# EAGLE library part 691701340006B (library Wurth_Connectors_WR-TBL Pluggable Connector)
WR-TBL Serie 7013 - 3.81 mm Horizontal PCB Header THR Type KIND PROPERTIES Pitch 3.81 mm MATERIAL PROPERTIES Insulator Material LCP Insulator Flammability Rating UL94 V-0 Contact Material Brass Contact Plating Tin GENERAL INFORMATION Operating Temperature -40 up to +105 °C Compliance RoHS ELECTRICAL PROPERTIES IR cULus 10 A Working Voltage [cULus] 300 V (AC) Withstanding Voltage [cULus] 2500 V (AC) Contact Resistance [cULus] 20 mΩ CERTIFICATION cULus Approval E315414 <https://www.we-online.com/catalog/media/o33330v209%20Family_WR-TBL_6917013400xxB.jpg> Details see: https://www.we-online.com/catalog/en/TBL_3_81_THR_7013_HORIZONTAL_PCB_HEADER_6917013400XXB/ Updated by Ella Wu 2022-07-25 2022(C) Wurth Elektronik
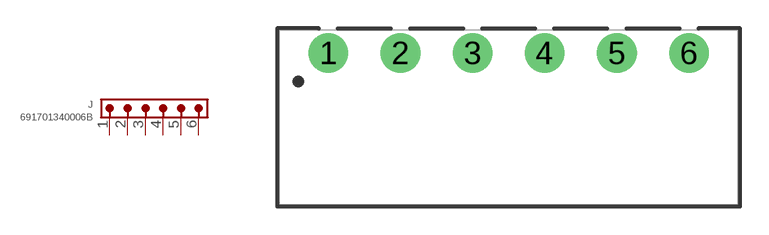
[diagram p142: symbol with the pads of 691701340006B; footprint 691701340006B]

Designator prefix J

## 691701340006B (DATASHEET-URL: https://www.we-online.com/redexpert/spec/691701340006B?ae; IR-UL: 10A; MOUNT: THT; PART-NUMBER: 691701340006B; PINS: 6; PITCH: 3.81mm; TYPE: Horizontal; VALUE: 691701340006B; WORKING-VOLTAGE-UL: 300V (AC))  [691701340006B]
1  1  pas
2  2  pas
3  3  pas
4  4  pas
5  5  pas
6  6  pas

## Footprint 691701340006B (pad centres in mm)
WR-TBL Serie 7013 - 3.81 mm Horizontal PCB Header THR Type Max Height = 7.3mm , Pitch 3.81mm , 6pins
drill 1.4: 1 -9.525,0; 2 -5.715,0; 3 -1.905,0; 4 1.905,0; 5 5.715,0; 6 9.525,0